# Altium integrated library TI Data Converters Analog to Digital Converter.IntLib: 2198 symbols (part 99 of 164)
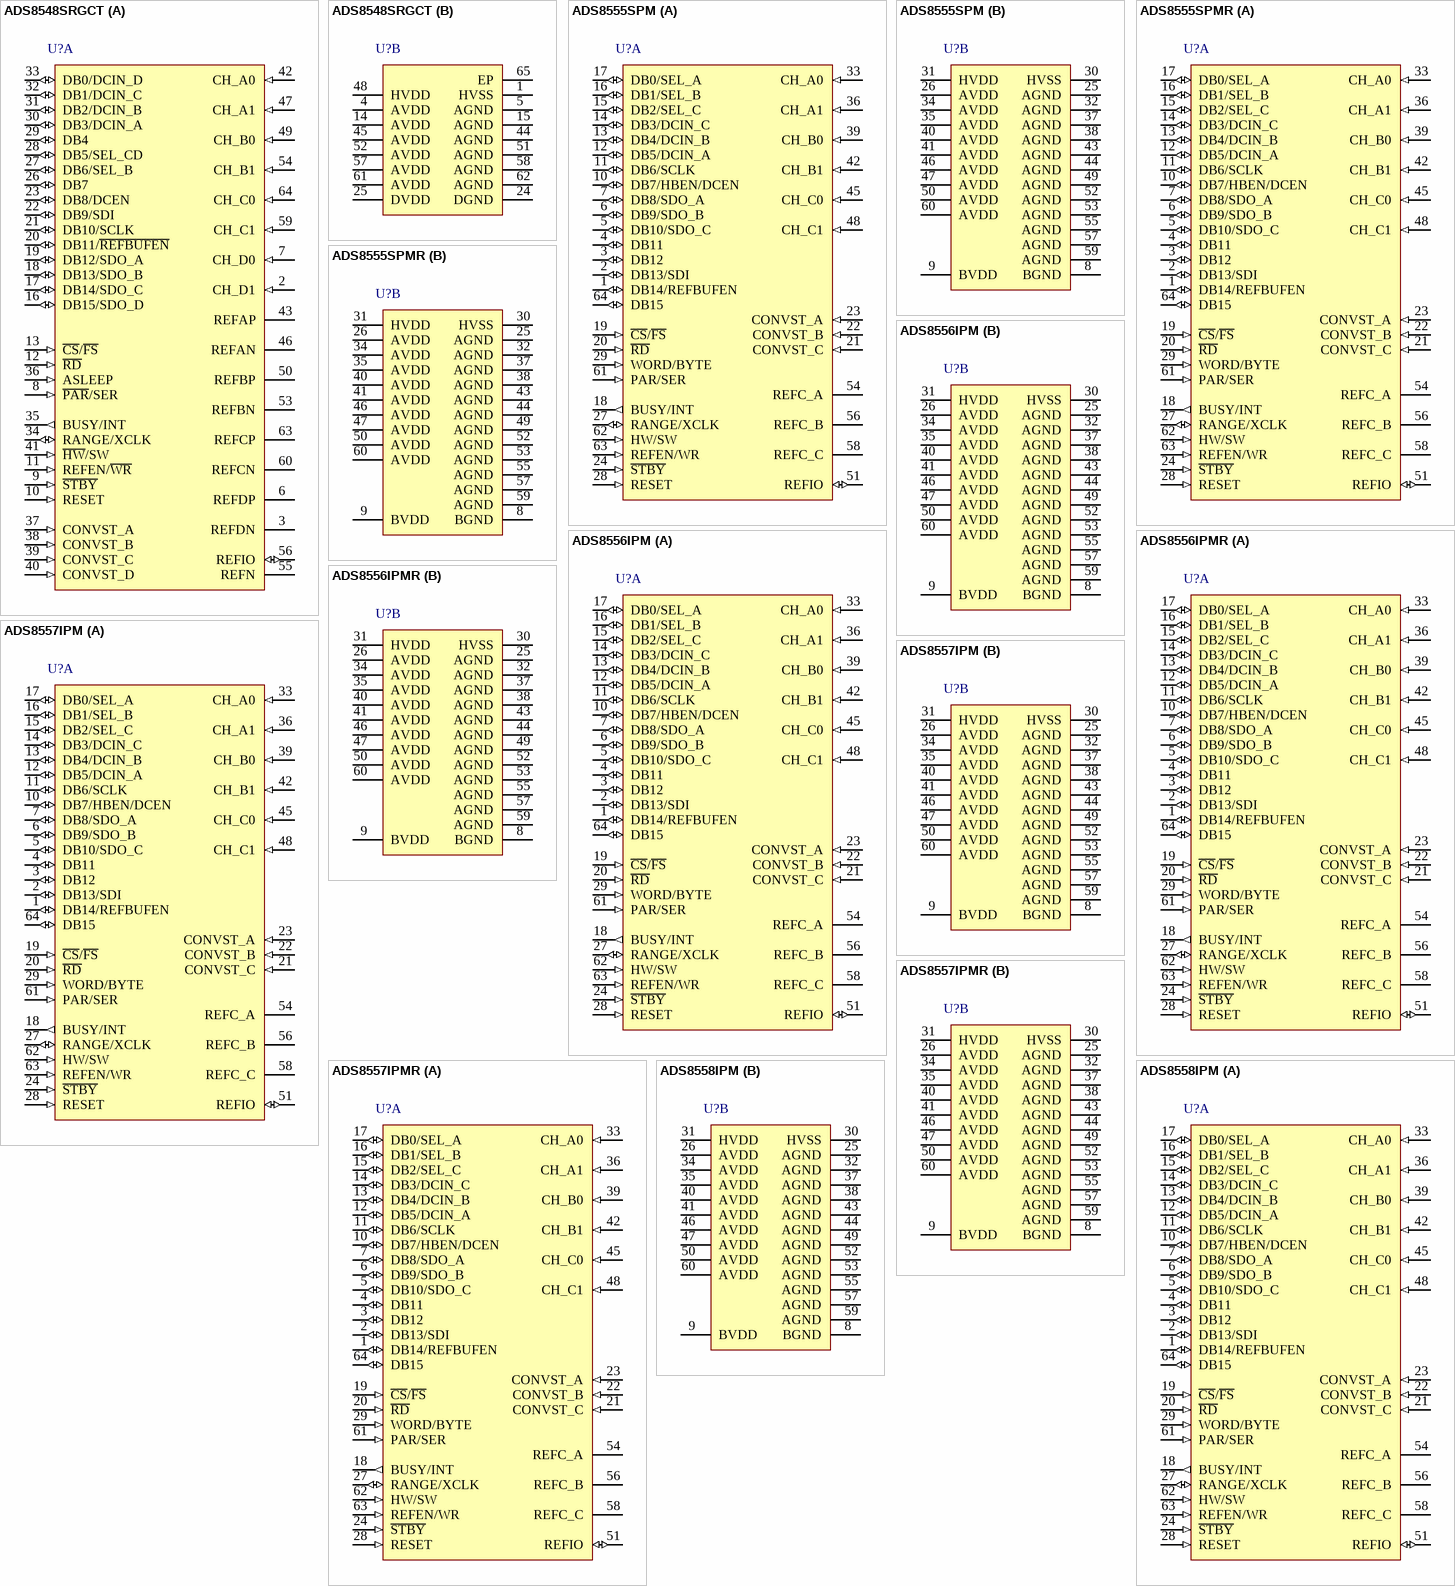
[diagram p224: symbols ADS8548SRGCT to ADS8558IPM]

## ADS8555SPM
designator U?
16-Bit, 6-Channel, Simultaneous Sampling ADC, -40 to 125 degC, 64-pin QFP (PM64), Green (RoHS & no Sb/Br); Manufacturer: Texas Instruments; PartNumber: ADS8555SPM; # Input Channels: 6; Analog Voltage AV/DD(Max)(V): 5.5; Analog Voltage AV/DD(Min)(V): 4.5; Architecture: SAR; Digital Supply(Min)(V): 2.7; INL(Max)(+/-LSB): 4; Interface: Parallel CMOS, Serial SPI; Resolution(Bits): 16; Sample Rate (max)(SPS): 630k; SFDR(dB): 95; SINAD(dB): 89.5; SNR(dB): 91.5; SubFamily: Precision ADC (<=10MSPS); DatasheetVersion: SBAS531B; PackageVersion: 4040152/C, 11/1996; PackageReference: PM64; PackageDescription: 64-Pin Plastic Quad Flatpack, Body 10 x 10 mm, Pitch 0.5 mm; Supplier 1: Digi-Key; Supplier Part Number 1: ADS7824U-ND; Digital Supply(Max)(V): 5.5; Eco-Plan: Green (RoHS & no Sb/Br); Mounting Technology: Surface Mount; Code_JEDEC: MS-026; ComponentLink1Description: Manufacturer URL; ComponentLink1URL: http://www.ti.com/; ComponentLink2Description: Datasheet; ComponentLink2URL: http://www.ti.com/general/docs/lit/getliterature.tsp?genericPartNumber=ADS8555&fileType=pdf; ComponentLink3Description: Package Specification; ComponentLink3URL: http://www.ti.com/lit/ml/mtqf008a/mtqf008a.pdf
footprint TI-PM64_N (QFP, 64-Leads, Body 10x10mm, Pitch 0.5mm, IPC Medium Density)
footprint TI-PM64_L (QFP, 64-Leads, Body 10x10mm, Pitch 0.5mm, IPC High Density)
footprint TI-PM64_M (QFP, 64-Leads, Body 10x10mm, Pitch 0.5mm, IPC Low Density)
part A pins: 1 DB14/REFBUFEN (io), 2 DB13/SDI (io), 3 DB12 (io), 4 DB11 (io), 5 DB10/SDO_C (io), 6 DB9/SDO_B (io), 7 DB8/SDO_A (io), 10 DB7/HBEN/DCEN (io), 11 DB6/SCLK (io), 12 DB5/DCIN_A (io), 13 DB4/DCIN_B (io), 14 DB3/DCIN_C (io), 15 DB2/SEL_C (io), 16 DB1/SEL_B (io), 17 DB0/SEL_A (io), 18 BUSY/INT (out), 19 ~{CS}/~{FS} (in), 20 ~{RD} (in), 21 CONVST_C (in), 22 CONVST_B (in), 23 CONVST_A (in), 24 ~{STBY} (in) "Standby mode input. When low, the entire device is powered-down (including the internal clock and reference). When high, the device operates in normal mode.", 27 RANGE/XCLK (io), 28 RESET (in) "Reset input, active high. Aborts any ongoing conversions. Resets the internal control register to 0x000003FF. The RESET pulse should be at least 50ns long.", 29 WORD/BYTE (in), 33 CH_A0 (in) "Analog input of channel A0. The input voltage range is controlled by RANGE pin in hardware mode or CR bit C26 (RANGE_A) in software mode.", 36 CH_A1 (in) "Analog input of channel A1. The input voltage range is controlled by RANGE pin in hardware mode or CR bit C26 (RANGE_A) in software mode.", 39 CH_B0 (in) "Analog input of channel B0. The input voltage range is controlled by RANGE pin in hardware mode or CR bit C27 (RANGE_B) in software mode.", 42 CH_B1 (in) "Analog input of channel B1. The input voltage range is controlled by RANGE pin in hardware mode or CR bit C27 (RANGE_B) in software mode.", 45 CH_C0 (in) "Analog input of channel C0. The input voltage range is controlled by RANGE pin in hardware mode or CR bit C28 (RANGE_C) in software mode.", 48 CH_C1 (in) "Analog input of channel C1. The input voltage range is controlled by RANGE pin in hardware mode or CR bit C28 (RANGE_C) in software mode.", 51 REFIO (io) "Reference voltage input/output (0.5V to 3.025V). The internal reference is enabled via REFEN/WR pin in hardware mode or CR bit C25 (REFEN) in software mode. The output value is controlled by the internal DAC (CR bits C[9:0]).(See Datasheet)", 54 REFC_A "Decoupling capacitor for reference of channels A. Connect a 10uF ceramic decoupling capacitor between this pin and pin 53.", 56 REFC_B "Decoupling capacitor for reference of channels B. Connect a 10uF ceramic decoupling capacitor between this pin and pin 55.", 58 REFC_C "Decoupling capacitor for reference of channels C. Connect a 10uF ceramic decoupling capacitor between this pin and pin 57.", 61 PAR/SER (in), 62 HW/SW (in), 63 REFEN/WR (in), 64 DB15 (io)
part B pins: 8 BGND (power) "Buffer IO ground, connect to digital ground plane", 9 BVDD (power) "Buffer IO supply, connect to digital supply (2.7V to 5.5V). Decouple with a 1uF ceramic capacitor or a combination of 100nF and 10uF ceramic capacitors to BGND.", 25 AGND (power) "Analog ground, connect to analog ground plane Pin 25 may have a dedicated ground if the difference between its potential and AGND is always kept within +/-300mV.", 26 AVDD (power) "Analog power supply (4.5V to 5.5V). Decouple each pin with a 100nF ceramic capacitor to AGND. Use an additional 10uF capacitor to AGND close to the device but without compromising the placement of the smaller capacitor. Pin (See Datasheet)", 30 HVSS (power) "Negative supply voltage for the analog inputs (-16.5V to -5V). Decouple with a 100nF ceramic capacitor to AGND placed next to the device and a 10uF capacitor to AGND close to the device but without compromising the placement (See Datasheet)", 31 HVDD (power) "Positive supply voltage for the analog inputs (5V to 16.5V). Decouple with a 100nF ceramic capacitor to AGND placed next to the device and a 10uF capacitor to AGND close to the device but without compromising the placement (See Datasheet)", 32 AGND (power) "Analog ground, connect to analog ground plane Pin 25 may have a dedicated ground if the difference between its potential and AGND is always kept within +/-300mV.", 34 AVDD (power) "Analog power supply (4.5V to 5.5V). Decouple each pin with a 100nF ceramic capacitor to AGND. Use an additional 10uF capacitor to AGND close to the device but without compromising the placement of the smaller capacitor. Pin (See Datasheet)", 35 AVDD (power) "Analog power supply (4.5V to 5.5V). Decouple each pin with a 100nF ceramic capacitor to AGND. Use an additional 10uF capacitor to AGND close to the device but without compromising the placement of the smaller capacitor. Pin (See Datasheet)", 37 AGND (power) "Analog ground, connect to analog ground plane Pin 25 may have a dedicated ground if the difference between its potential and AGND is always kept within +/-300mV.", 38 AGND (power) "Analog ground, connect to analog ground plane Pin 25 may have a dedicated ground if the difference between its potential and AGND is always kept within +/-300mV.", 40 AVDD (power) "Analog power supply (4.5V to 5.5V). Decouple each pin with a 100nF ceramic capacitor to AGND. Use an additional 10uF capacitor to AGND close to the device but without compromising the placement of the smaller capacitor. Pin (See Datasheet)", 41 AVDD (power) "Analog power supply (4.5V to 5.5V). Decouple each pin with a 100nF ceramic capacitor to AGND. Use an additional 10uF capacitor to AGND close to the device but without compromising the placement of the smaller capacitor. Pin (See Datasheet)", 43 AGND (power) "Analog ground, connect to analog ground plane Pin 25 may have a dedicated ground if the difference between its potential and AGND is always kept within +/-300mV.", 44 AGND (power) "Analog ground, connect to analog ground plane Pin 25 may have a dedicated ground if the difference between its potential and AGND is always kept within +/-300mV.", 46 AVDD (power) "Analog power supply (4.5V to 5.5V). Decouple each pin with a 100nF ceramic capacitor to AGND. Use an additional 10uF capacitor to AGND close to the device but without compromising the placement of the smaller capacitor. Pin (See Datasheet)", 47 AVDD (power) "Analog power supply (4.5V to 5.5V). Decouple each pin with a 100nF ceramic capacitor to AGND. Use an additional 10uF capacitor to AGND close to the device but without compromising the placement of the smaller capacitor. Pin (See Datasheet)", 49 AGND (power) "Analog ground, connect to analog ground plane Pin 25 may have a dedicated ground if the difference between its potential and AGND is always kept within +/-300mV.", 50 AVDD (power) "Analog power supply (4.5V to 5.5V). Decouple each pin with a 100nF ceramic capacitor to AGND. Use an additional 10uF capacitor to AGND close to the device but without compromising the placement of the smaller capacitor. Pin (See Datasheet)", 52 AGND (power) "Analog ground, connect to analog ground plane Pin 25 may have a dedicated ground if the difference between its potential and AGND is always kept within +/-300mV.", 53 AGND (power) "Analog ground, connect to analog ground plane Pin 25 may have a dedicated ground if the difference between its potential and AGND is always kept within +/-300mV.", 55 AGND (power) "Analog ground, connect to analog ground plane Pin 25 may have a dedicated ground if the difference between its potential and AGND is always kept within +/-300mV.", 57 AGND (power) "Analog ground, connect to analog ground plane Pin 25 may have a dedicated ground if the difference between its potential and AGND is always kept within +/-300mV.", 59 AGND (power) "Analog ground, connect to analog ground plane Pin 25 may have a dedicated ground if the difference between its potential and AGND is always kept within +/-300mV.", 60 AVDD (power) "Analog power supply (4.5V to 5.5V). Decouple each pin with a 100nF ceramic capacitor to AGND. Use an additional 10uF capacitor to AGND close to the device but without compromising the placement of the smaller capacitor. Pin (See Datasheet)"

## ADS8555SPMR
designator U?
16-Bit, 6-Channel, Simultaneous Sampling ADC, -40 to 125 degC, 64-pin QFP (PM64), Green (RoHS & no Sb/Br); Manufacturer: Texas Instruments; PartNumber: ADS8555SPMR; # Input Channels: 6; Analog Voltage AV/DD(Max)(V): 5.5; Analog Voltage AV/DD(Min)(V): 4.5; Architecture: SAR; Digital Supply(Min)(V): 2.7; INL(Max)(+/-LSB): 4; Interface: Parallel CMOS, Serial SPI; Resolution(Bits): 16; Sample Rate (max)(SPS): 630k; SFDR(dB): 95; SINAD(dB): 89.5; SNR(dB): 91.5; SubFamily: Precision ADC (<=10MSPS); DatasheetVersion: SBAS531B; PackageVersion: 4040152/C, 11/1996; PackageReference: PM64; PackageDescription: 64-Pin Plastic Quad Flatpack, Body 10 x 10 mm, Pitch 0.5 mm; Supplier 1: Digi-Key; Supplier Part Number 1: ADS7824U/1K-ND; Digital Supply(Max)(V): 5.5; Eco-Plan: Green (RoHS & no Sb/Br); Mounting Technology: Surface Mount; Code_JEDEC: MS-026; ComponentLink1Description: Manufacturer URL; ComponentLink1URL: http://www.ti.com/; ComponentLink2Description: Datasheet; ComponentLink2URL: http://www.ti.com/general/docs/lit/getliterature.tsp?genericPartNumber=ADS8555&fileType=pdf; ComponentLink3Description: Package Specification; ComponentLink3URL: http://www.ti.com/lit/ml/mtqf008a/mtqf008a.pdf
footprint TI-PM64_N (QFP, 64-Leads, Body 10x10mm, Pitch 0.5mm, IPC Medium Density)
footprint TI-PM64_L (QFP, 64-Leads, Body 10x10mm, Pitch 0.5mm, IPC High Density)
footprint TI-PM64_M (QFP, 64-Leads, Body 10x10mm, Pitch 0.5mm, IPC Low Density)
part A pins: 1 DB14/REFBUFEN (io), 2 DB13/SDI (io), 3 DB12 (io), 4 DB11 (io), 5 DB10/SDO_C (io), 6 DB9/SDO_B (io), 7 DB8/SDO_A (io), 10 DB7/HBEN/DCEN (io), 11 DB6/SCLK (io), 12 DB5/DCIN_A (io), 13 DB4/DCIN_B (io), 14 DB3/DCIN_C (io), 15 DB2/SEL_C (io), 16 DB1/SEL_B (io), 17 DB0/SEL_A (io), 18 BUSY/INT (out), 19 ~{CS}/~{FS} (in), 20 ~{RD} (in), 21 CONVST_C (in), 22 CONVST_B (in), 23 CONVST_A (in), 24 ~{STBY} (in) "Standby mode input. When low, the entire device is powered-down (including the internal clock and reference). When high, the device operates in normal mode.", 27 RANGE/XCLK (io), 28 RESET (in) "Reset input, active high. Aborts any ongoing conversions. Resets the internal control register to 0x000003FF. The RESET pulse should be at least 50ns long.", 29 WORD/BYTE (in), 33 CH_A0 (in) "Analog input of channel A0. The input voltage range is controlled by RANGE pin in hardware mode or CR bit C26 (RANGE_A) in software mode.", 36 CH_A1 (in) "Analog input of channel A1. The input voltage range is controlled by RANGE pin in hardware mode or CR bit C26 (RANGE_A) in software mode.", 39 CH_B0 (in) "Analog input of channel B0. The input voltage range is controlled by RANGE pin in hardware mode or CR bit C27 (RANGE_B) in software mode.", 42 CH_B1 (in) "Analog input of channel B1. The input voltage range is controlled by RANGE pin in hardware mode or CR bit C27 (RANGE_B) in software mode.", 45 CH_C0 (in) "Analog input of channel C0. The input voltage range is controlled by RANGE pin in hardware mode or CR bit C28 (RANGE_C) in software mode.", 48 CH_C1 (in) "Analog input of channel C1. The input voltage range is controlled by RANGE pin in hardware mode or CR bit C28 (RANGE_C) in software mode.", 51 REFIO (io) "Reference voltage input/output (0.5V to 3.025V). The internal reference is enabled via REFEN/WR pin in hardware mode or CR bit C25 (REFEN) in software mode. The output value is controlled by the internal DAC (CR bits C[9:0]).(See Datasheet)", 54 REFC_A "Decoupling capacitor for reference of channels A. Connect a 10uF ceramic decoupling capacitor between this pin and pin 53.", 56 REFC_B "Decoupling capacitor for reference of channels B. Connect a 10uF ceramic decoupling capacitor between this pin and pin 55.", 58 REFC_C "Decoupling capacitor for reference of channels C. Connect a 10uF ceramic decoupling capacitor between this pin and pin 57.", 61 PAR/SER (in), 62 HW/SW (in), 63 REFEN/WR (in), 64 DB15 (io)
part B pins: 8 BGND (power) "Buffer IO ground, connect to digital ground plane", 9 BVDD (power) "Buffer IO supply, connect to digital supply (2.7V to 5.5V). Decouple with a 1uF ceramic capacitor or a combination of 100nF and 10uF ceramic capacitors to BGND.", 25 AGND (power) "Analog ground, connect to analog ground plane Pin 25 may have a dedicated ground if the difference between its potential and AGND is always kept within +/-300mV.", 26 AVDD (power) "Analog power supply (4.5V to 5.5V). Decouple each pin with a 100nF ceramic capacitor to AGND. Use an additional 10uF capacitor to AGND close to the device but without compromising the placement of the smaller capacitor. Pin (See Datasheet)", 30 HVSS (power) "Negative supply voltage for the analog inputs (-16.5V to -5V). Decouple with a 100nF ceramic capacitor to AGND placed next to the device and a 10uF capacitor to AGND close to the device but without compromising the placement (See Datasheet)", 31 HVDD (power) "Positive supply voltage for the analog inputs (5V to 16.5V). Decouple with a 100nF ceramic capacitor to AGND placed next to the device and a 10uF capacitor to AGND close to the device but without compromising the placement (See Datasheet)", 32 AGND (power) "Analog ground, connect to analog ground plane Pin 25 may have a dedicated ground if the difference between its potential and AGND is always kept within +/-300mV.", 34 AVDD (power) "Analog power supply (4.5V to 5.5V). Decouple each pin with a 100nF ceramic capacitor to AGND. Use an additional 10uF capacitor to AGND close to the device but without compromising the placement of the smaller capacitor. Pin (See Datasheet)", 35 AVDD (power) "Analog power supply (4.5V to 5.5V). Decouple each pin with a 100nF ceramic capacitor to AGND. Use an additional 10uF capacitor to AGND close to the device but without compromising the placement of the smaller capacitor. Pin (See Datasheet)", 37 AGND (power) "Analog ground, connect to analog ground plane Pin 25 may have a dedicated ground if the difference between its potential and AGND is always kept within +/-300mV.", 38 AGND (power) "Analog ground, connect to analog ground plane Pin 25 may have a dedicated ground if the difference between its potential and AGND is always kept within +/-300mV.", 40 AVDD (power) "Analog power supply (4.5V to 5.5V). Decouple each pin with a 100nF ceramic capacitor to AGND. Use an additional 10uF capacitor to AGND close to the device but without compromising the placement of the smaller capacitor. Pin (See Datasheet)", 41 AVDD (power) "Analog power supply (4.5V to 5.5V). Decouple each pin with a 100nF ceramic capacitor to AGND. Use an additional 10uF capacitor to AGND close to the device but without compromising the placement of the smaller capacitor. Pin (See Datasheet)", 43 AGND (power) "Analog ground, connect to analog ground plane Pin 25 may have a dedicated ground if the difference between its potential and AGND is always kept within +/-300mV.", 44 AGND (power) "Analog ground, connect to analog ground plane Pin 25 may have a dedicated ground if the difference between its potential and AGND is always kept within +/-300mV.", 46 AVDD (power) "Analog power supply (4.5V to 5.5V). Decouple each pin with a 100nF ceramic capacitor to AGND. Use an additional 10uF capacitor to AGND close to the device but without compromising the placement of the smaller capacitor. Pin (See Datasheet)", 47 AVDD (power) "Analog power supply (4.5V to 5.5V). Decouple each pin with a 100nF ceramic capacitor to AGND. Use an additional 10uF capacitor to AGND close to the device but without compromising the placement of the smaller capacitor. Pin (See Datasheet)", 49 AGND (power) "Analog ground, connect to analog ground plane Pin 25 may have a dedicated ground if the difference between its potential and AGND is always kept within +/-300mV.", 50 AVDD (power) "Analog power supply (4.5V to 5.5V). Decouple each pin with a 100nF ceramic capacitor to AGND. Use an additional 10uF capacitor to AGND close to the device but without compromising the placement of the smaller capacitor. Pin (See Datasheet)", 52 AGND (power) "Analog ground, connect to analog ground plane Pin 25 may have a dedicated ground if the difference between its potential and AGND is always kept within +/-300mV.", 53 AGND (power) "Analog ground, connect to analog ground plane Pin 25 may have a dedicated ground if the difference between its potential and AGND is always kept within +/-300mV.", 55 AGND (power) "Analog ground, connect to analog ground plane Pin 25 may have a dedicated ground if the difference between its potential and AGND is always kept within +/-300mV.", 57 AGND (power) "Analog ground, connect to analog ground plane Pin 25 may have a dedicated ground if the difference between its potential and AGND is always kept within +/-300mV.", 59 AGND (power) "Analog ground, connect to analog ground plane Pin 25 may have a dedicated ground if the difference between its potential and AGND is always kept within +/-300mV.", 60 AVDD (power) "Analog power supply (4.5V to 5.5V). Decouple each pin with a 100nF ceramic capacitor to AGND. Use an additional 10uF capacitor to AGND close to the device but without compromising the placement of the smaller capacitor. Pin (See Datasheet)"

## ADS8556IPM
designator U?
630 kSPS, 6-Channel, Simultaneous Sampling ADC, -40 to 125 degC, 64-pin QFP (PM64), Green (RoHS & no Sb/Br); Manufacturer: Texas Instruments; PartNumber: ADS8556IPM; # Input Channels: 6; Analog Voltage AV/DD(Max)(V): 5.5; Analog Voltage AV/DD(Min)(V): 4.5; Architecture: SAR; Digital Supply(Min)(V): 2.7; INL(Max)(+/-LSB): 4; Interface: Parallel CMOS, Serial SPI; Resolution(Bits): 16; Sample Rate (max)(SPS): 630k; SFDR(dB): 95; SINAD(dB): 89.5; SNR(dB): 91.5; SubFamily: Precision ADC (<=10MSPS); DatasheetVersion: SBAS404B; PackageVersion: 4040152/C, 11/1996; PackageReference: PM64; PackageDescription: 64-Pin Plastic Quad Flatpack, Body 10 x 10 mm, Pitch 0.5 mm; Supplier 1: Digi-Key; Supplier Part Number 1: ADS7824U/1KE4-ND; Digital Supply(Max)(V): 5.5; Eco-Plan: Green (RoHS & no Sb/Br); Mounting Technology: Surface Mount; Code_JEDEC: MS-026; ComponentLink1Description: Manufacturer URL; ComponentLink1URL: http://www.ti.com/; ComponentLink2Description: Datasheet; ComponentLink2URL: http://www.ti.com/general/docs/lit/getliterature.tsp?genericPartNumber=ADS8556&fileType=pdf; ComponentLink3Description: Package Specification; ComponentLink3URL: http://www.ti.com/lit/ml/mtqf008a/mtqf008a.pdf
footprint TI-PM64_N (QFP, 64-Leads, Body 10x10mm, Pitch 0.5mm, IPC Medium Density)
footprint TI-PM64_L (QFP, 64-Leads, Body 10x10mm, Pitch 0.5mm, IPC High Density)
footprint TI-PM64_M (QFP, 64-Leads, Body 10x10mm, Pitch 0.5mm, IPC Low Density)
part A pins: 1 DB14/REFBUFEN (io), 2 DB13/SDI (io), 3 DB12 (io), 4 DB11 (io), 5 DB10/SDO_C (io), 6 DB9/SDO_B (io), 7 DB8/SDO_A (io), 10 DB7/HBEN/DCEN (io), 11 DB6/SCLK (io), 12 DB5/DCIN_A (io), 13 DB4/DCIN_B (io), 14 DB3/DCIN_C (io), 15 DB2/SEL_C (io), 16 DB1/SEL_B (io), 17 DB0/SEL_A (io), 18 BUSY/INT (out), 19 ~{CS}/~{FS} (in), 20 ~{RD} (in), 21 CONVST_C (in), 22 CONVST_B (in), 23 CONVST_A (in), 24 ~{STBY} (in) "Standby mode input. When low, the entire device is powered-down (including the internal clock and reference). When high, the device operates in normal mode.", 27 RANGE/XCLK (io), 28 RESET (in) "Reset input, active high. Aborts any ongoing conversions. Resets the internal control register to 0x000003FF. The RESET pulse should be at least 50ns long.", 29 WORD/BYTE (in), 33 CH_A0 (in) "Analog input of channel A0. The input voltage range is controlled by RANGE pin in hardware mode or CR bit C26 (RANGE_A) in software mode.", 36 CH_A1 (in) "Analog input of channel A1. The input voltage range is controlled by RANGE pin in hardware mode or CR bit C26 (RANGE_A) in software mode.", 39 CH_B0 (in) "Analog input of channel B0. The input voltage range is controlled by RANGE pin in hardware mode or CR bit C27 (RANGE_B) in software mode.", 42 CH_B1 (in) "Analog input of channel B1. The input voltage range is controlled by RANGE pin in hardware mode or CR bit C27 (RANGE_B) in software mode.", 45 CH_C0 (in) "Analog input of channel C0. The input voltage range is controlled by RANGE pin in hardware mode or CR bit C28 (RANGE_C) in software mode.", 48 CH_C1 (in) "Analog input of channel C1. The input voltage range is controlled by RANGE pin in hardware mode or CR bit C28 (RANGE_C) in software mode.", 51 REFIO (io) "Reference voltage input/output (0.5V to 3.025V). The internal reference is enabled via REFEN/WR pin in hardware mode or CR bit C25 (REFEN) in software mode. The output value is controlled by the internal DAC (CR bits C[9:0]).(See Datasheet)", 54 REFC_A "Decoupling capacitor for reference of channels A. Connect a 10uF ceramic decoupling capacitor between this pin and pin 53.", 56 REFC_B "Decoupling capacitor for reference of channels B. Connect a 10uF ceramic decoupling capacitor between this pin and pin 55.", 58 REFC_C "Decoupling capacitor for reference of channels C. Connect a 10uF ceramic decoupling capacitor between this pin and pin 57.", 61 PAR/SER (in), 62 HW/SW (in), 63 REFEN/WR (in), 64 DB15 (io)
part B pins: 8 BGND (power) "Buffer IO ground, connect to digital ground plane", 9 BVDD (power) "Buffer IO supply, connect to digital supply (2.7V to 5.5V). Decouple with a 1uF ceramic capacitor or a combination of 100nF and 10uF ceramic capacitors to BGND.", 25 AGND (power) "Analog ground, connect to analog ground plane Pin 25 may have a dedicated ground if the difference between its potential and AGND is always kept within +/-300mV.", 26 AVDD (power) "Analog power supply (4.5V to 5.5V). Decouple each pin with a 100nF ceramic capacitor to AGND. Use an additional 10uF capacitor to AGND close to the device but without compromising the placement of the smaller capacitor. Pin (See Datasheet)", 30 HVSS (power) "Negative supply voltage for the analog inputs (-16.5V to -5V). Decouple with a 100nF ceramic capacitor to AGND placed next to the device and a 10uF capacitor to AGND close to the device but without compromising the placement (See Datasheet)", 31 HVDD (power) "Positive supply voltage for the analog inputs (5V to 16.5V). Decouple with a 100nF ceramic capacitor to AGND placed next to the device and a 10uF capacitor to AGND close to the device but without compromising the placement (See Datasheet)", 32 AGND (power) "Analog ground, connect to analog ground plane Pin 25 may have a dedicated ground if the difference between its potential and AGND is always kept within +/-300mV.", 34 AVDD (power) "Analog power supply (4.5V to 5.5V). Decouple each pin with a 100nF ceramic capacitor to AGND. Use an additional 10uF capacitor to AGND close to the device but without compromising the placement of the smaller capacitor. Pin (See Datasheet)", 35 AVDD (power) "Analog power supply (4.5V to 5.5V). Decouple each pin with a 100nF ceramic capacitor to AGND. Use an additional 10uF capacitor to AGND close to the device but without compromising the placement of the smaller capacitor. Pin (See Datasheet)", 37 AGND (power) "Analog ground, connect to analog ground plane Pin 25 may have a dedicated ground if the difference between its potential and AGND is always kept within +/-300mV.", 38 AGND (power) "Analog ground, connect to analog ground plane Pin 25 may have a dedicated ground if the difference between its potential and AGND is always kept within +/-300mV.", 40 AVDD (power) "Analog power supply (4.5V to 5.5V). Decouple each pin with a 100nF ceramic capacitor to AGND. Use an additional 10uF capacitor to AGND close to the device but without compromising the placement of the smaller capacitor. Pin (See Datasheet)", 41 AVDD (power) "Analog power supply (4.5V to 5.5V). Decouple each pin with a 100nF ceramic capacitor to AGND. Use an additional 10uF capacitor to AGND close to the device but without compromising the placement of the smaller capacitor. Pin (See Datasheet)", 43 AGND (power) "Analog ground, connect to analog ground plane Pin 25 may have a dedicated ground if the difference between its potential and AGND is always kept within +/-300mV.", 44 AGND (power) "Analog ground, connect to analog ground plane Pin 25 may have a dedicated ground if the difference between its potential and AGND is always kept within +/-300mV.", 46 AVDD (power) "Analog power supply (4.5V to 5.5V). Decouple each pin with a 100nF ceramic capacitor to AGND. Use an additional 10uF capacitor to AGND close to the device but without compromising the placement of the smaller capacitor. Pin (See Datasheet)", 47 AVDD (power) "Analog power supply (4.5V to 5.5V). Decouple each pin with a 100nF ceramic capacitor to AGND. Use an additional 10uF capacitor to AGND close to the device but without compromising the placement of the smaller capacitor. Pin (See Datasheet)", 49 AGND (power) "Analog ground, connect to analog ground plane Pin 25 may have a dedicated ground if the difference between its potential and AGND is always kept within +/-300mV.", 50 AVDD (power) "Analog power supply (4.5V to 5.5V). Decouple each pin with a 100nF ceramic capacitor to AGND. Use an additional 10uF capacitor to AGND close to the device but without compromising the placement of the smaller capacitor. Pin (See Datasheet)", 52 AGND (power) "Analog ground, connect to analog ground plane Pin 25 may have a dedicated ground if the difference between its potential and AGND is always kept within +/-300mV.", 53 AGND (power) "Analog ground, connect to analog ground plane Pin 25 may have a dedicated ground if the difference between its potential and AGND is always kept within +/-300mV.", 55 AGND (power) "Analog ground, connect to analog ground plane Pin 25 may have a dedicated ground if the difference between its potential and AGND is always kept within +/-300mV.", 57 AGND (power) "Analog ground, connect to analog ground plane Pin 25 may have a dedicated ground if the difference between its potential and AGND is always kept within +/-300mV.", 59 AGND (power) "Analog ground, connect to analog ground plane Pin 25 may have a dedicated ground if the difference between its potential and AGND is always kept within +/-300mV.", 60 AVDD (power) "Analog power supply (4.5V to 5.5V). Decouple each pin with a 100nF ceramic capacitor to AGND. Use an additional 10uF capacitor to AGND close to the device but without compromising the placement of the smaller capacitor. Pin (See Datasheet)"

## ADS8556IPMR
designator U?
630 kSPS, 6-Channel, Simultaneous Sampling ADC, -40 to 125 degC, 64-pin QFP (PM64), Green (RoHS & no Sb/Br); Manufacturer: Texas Instruments; PartNumber: ADS8556IPMR; # Input Channels: 6; Analog Voltage AV/DD(Max)(V): 5.5; Analog Voltage AV/DD(Min)(V): 4.5; Architecture: SAR; Digital Supply(Min)(V): 2.7; INL(Max)(+/-LSB): 4; Interface: Parallel CMOS, Serial SPI; Resolution(Bits): 16; Sample Rate (max)(SPS): 630k; SFDR(dB): 95; SINAD(dB): 89.5; SNR(dB): 91.5; SubFamily: Precision ADC (<=10MSPS); DatasheetVersion: SBAS404B; PackageVersion: 4040152/C, 11/1996; PackageReference: PM64; PackageDescription: 64-Pin Plastic Quad Flatpack, Body 10 x 10 mm, Pitch 0.5 mm; Supplier 1: Digi-Key; Supplier Part Number 1: ADS7824UB-ND; Digital Supply(Max)(V): 5.5; Eco-Plan: Green (RoHS & no Sb/Br); Mounting Technology: Surface Mount; Code_JEDEC: MS-026; ComponentLink1Description: Manufacturer URL; ComponentLink1URL: http://www.ti.com/; ComponentLink2Description: Datasheet; ComponentLink2URL: http://www.ti.com/general/docs/lit/getliterature.tsp?genericPartNumber=ADS8556&fileType=pdf; ComponentLink3Description: Package Specification; ComponentLink3URL: http://www.ti.com/lit/ml/mtqf008a/mtqf008a.pdf
footprint TI-PM64_N (QFP, 64-Leads, Body 10x10mm, Pitch 0.5mm, IPC Medium Density)
footprint TI-PM64_L (QFP, 64-Leads, Body 10x10mm, Pitch 0.5mm, IPC High Density)
footprint TI-PM64_M (QFP, 64-Leads, Body 10x10mm, Pitch 0.5mm, IPC Low Density)
part A pins: 1 DB14/REFBUFEN (io), 2 DB13/SDI (io), 3 DB12 (io), 4 DB11 (io), 5 DB10/SDO_C (io), 6 DB9/SDO_B (io), 7 DB8/SDO_A (io), 10 DB7/HBEN/DCEN (io), 11 DB6/SCLK (io), 12 DB5/DCIN_A (io), 13 DB4/DCIN_B (io), 14 DB3/DCIN_C (io), 15 DB2/SEL_C (io), 16 DB1/SEL_B (io), 17 DB0/SEL_A (io), 18 BUSY/INT (out), 19 ~{CS}/~{FS} (in), 20 ~{RD} (in), 21 CONVST_C (in), 22 CONVST_B (in), 23 CONVST_A (in), 24 ~{STBY} (in) "Standby mode input. When low, the entire device is powered-down (including the internal clock and reference). When high, the device operates in normal mode.", 27 RANGE/XCLK (io), 28 RESET (in) "Reset input, active high. Aborts any ongoing conversions. Resets the internal control register to 0x000003FF. The RESET pulse should be at least 50ns long.", 29 WORD/BYTE (in), 33 CH_A0 (in) "Analog input of channel A0. The input voltage range is controlled by RANGE pin in hardware mode or CR bit C26 (RANGE_A) in software mode.", 36 CH_A1 (in) "Analog input of channel A1. The input voltage range is controlled by RANGE pin in hardware mode or CR bit C26 (RANGE_A) in software mode.", 39 CH_B0 (in) "Analog input of channel B0. The input voltage range is controlled by RANGE pin in hardware mode or CR bit C27 (RANGE_B) in software mode.", 42 CH_B1 (in) "Analog input of channel B1. The input voltage range is controlled by RANGE pin in hardware mode or CR bit C27 (RANGE_B) in software mode.", 45 CH_C0 (in) "Analog input of channel C0. The input voltage range is controlled by RANGE pin in hardware mode or CR bit C28 (RANGE_C) in software mode.", 48 CH_C1 (in) "Analog input of channel C1. The input voltage range is controlled by RANGE pin in hardware mode or CR bit C28 (RANGE_C) in software mode.", 51 REFIO (io) "Reference voltage input/output (0.5V to 3.025V). The internal reference is enabled via REFEN/WR pin in hardware mode or CR bit C25 (REFEN) in software mode. The output value is controlled by the internal DAC (CR bits C[9:0]).(See Datasheet)", 54 REFC_A "Decoupling capacitor for reference of channels A. Connect a 10uF ceramic decoupling capacitor between this pin and pin 53.", 56 REFC_B "Decoupling capacitor for reference of channels B. Connect a 10uF ceramic decoupling capacitor between this pin and pin 55.", 58 REFC_C "Decoupling capacitor for reference of channels C. Connect a 10uF ceramic decoupling capacitor between this pin and pin 57.", 61 PAR/SER (in), 62 HW/SW (in), 63 REFEN/WR (in), 64 DB15 (io)
part B pins: 8 BGND (power) "Buffer IO ground, connect to digital ground plane", 9 BVDD (power) "Buffer IO supply, connect to digital supply (2.7V to 5.5V). Decouple with a 1uF ceramic capacitor or a combination of 100nF and 10uF ceramic capacitors to BGND.", 25 AGND (power) "Analog ground, connect to analog ground plane Pin 25 may have a dedicated ground if the difference between its potential and AGND is always kept within +/-300mV.", 26 AVDD (power) "Analog power supply (4.5V to 5.5V). Decouple each pin with a 100nF ceramic capacitor to AGND. Use an additional 10uF capacitor to AGND close to the device but without compromising the placement of the smaller capacitor. Pin (See Datasheet)", 30 HVSS (power) "Negative supply voltage for the analog inputs (-16.5V to -5V). Decouple with a 100nF ceramic capacitor to AGND placed next to the device and a 10uF capacitor to AGND close to the device but without compromising the placement (See Datasheet)", 31 HVDD (power) "Positive supply voltage for the analog inputs (5V to 16.5V). Decouple with a 100nF ceramic capacitor to AGND placed next to the device and a 10uF capacitor to AGND close to the device but without compromising the placement (See Datasheet)", 32 AGND (power) "Analog ground, connect to analog ground plane Pin 25 may have a dedicated ground if the difference between its potential and AGND is always kept within +/-300mV.", 34 AVDD (power) "Analog power supply (4.5V to 5.5V). Decouple each pin with a 100nF ceramic capacitor to AGND. Use an additional 10uF capacitor to AGND close to the device but without compromising the placement of the smaller capacitor. Pin (See Datasheet)", 35 AVDD (power) "Analog power supply (4.5V to 5.5V). Decouple each pin with a 100nF ceramic capacitor to AGND. Use an additional 10uF capacitor to AGND close to the device but without compromising the placement of the smaller capacitor. Pin (See Datasheet)", 37 AGND (power) "Analog ground, connect to analog ground plane Pin 25 may have a dedicated ground if the difference between its potential and AGND is always kept within +/-300mV.", 38 AGND (power) "Analog ground, connect to analog ground plane Pin 25 may have a dedicated ground if the difference between its potential and AGND is always kept within +/-300mV.", 40 AVDD (power) "Analog power supply (4.5V to 5.5V). Decouple each pin with a 100nF ceramic capacitor to AGND. Use an additional 10uF capacitor to AGND close to the device but without compromising the placement of the smaller capacitor. Pin (See Datasheet)", 41 AVDD (power) "Analog power supply (4.5V to 5.5V). Decouple each pin with a 100nF ceramic capacitor to AGND. Use an additional 10uF capacitor to AGND close to the device but without compromising the placement of the smaller capacitor. Pin (See Datasheet)", 43 AGND (power) "Analog ground, connect to analog ground plane Pin 25 may have a dedicated ground if the difference between its potential and AGND is always kept within +/-300mV.", 44 AGND (power) "Analog ground, connect to analog ground plane Pin 25 may have a dedicated ground if the difference between its potential and AGND is always kept within +/-300mV.", 46 AVDD (power) "Analog power supply (4.5V to 5.5V). Decouple each pin with a 100nF ceramic capacitor to AGND. Use an additional 10uF capacitor to AGND close to the device but without compromising the placement of the smaller capacitor. Pin (See Datasheet)", 47 AVDD (power) "Analog power supply (4.5V to 5.5V). Decouple each pin with a 100nF ceramic capacitor to AGND. Use an additional 10uF capacitor to AGND close to the device but without compromising the placement of the smaller capacitor. Pin (See Datasheet)", 49 AGND (power) "Analog ground, connect to analog ground plane Pin 25 may have a dedicated ground if the difference between its potential and AGND is always kept within +/-300mV.", 50 AVDD (power) "Analog power supply (4.5V to 5.5V). Decouple each pin with a 100nF ceramic capacitor to AGND. Use an additional 10uF capacitor to AGND close to the device but without compromising the placement of the smaller capacitor. Pin (See Datasheet)", 52 AGND (power) "Analog ground, connect to analog ground plane Pin 25 may have a dedicated ground if the difference between its potential and AGND is always kept within +/-300mV.", 53 AGND (power) "Analog ground, connect to analog ground plane Pin 25 may have a dedicated ground if the difference between its potential and AGND is always kept within +/-300mV.", 55 AGND (power) "Analog ground, connect to analog ground plane Pin 25 may have a dedicated ground if the difference between its potential and AGND is always kept within +/-300mV.", 57 AGND (power) "Analog ground, connect to analog ground plane Pin 25 may have a dedicated ground if the difference between its potential and AGND is always kept within +/-300mV.", 59 AGND (power) "Analog ground, connect to analog ground plane Pin 25 may have a dedicated ground if the difference between its potential and AGND is always kept within +/-300mV.", 60 AVDD (power) "Analog power supply (4.5V to 5.5V). Decouple each pin with a 100nF ceramic capacitor to AGND. Use an additional 10uF capacitor to AGND close to the device but without compromising the placement of the smaller capacitor. Pin (See Datasheet)"

## ADS8557IPM
designator U?
670 kSPS, 14-Bit, 6-Channel, Simultaneous Sampling ADC, -40 to 125 degC, 64-pin QFP (PM64), Green (RoHS & no Sb/Br); Manufacturer: Texas Instruments; PartNumber: ADS8557IPM; # Input Channels: 6; Analog Voltage AV/DD(Max)(V): 5.5; Analog Voltage AV/DD(Min)(V): 4.5; Architecture: SAR; Digital Supply(Min)(V): 2.7; INL(Max)(+/-LSB): 1; Interface: Parallel CMOS, Serial SPI; Resolution(Bits): 14; Sample Rate (max)(SPS): 670k; SFDR(dB): 92; SINAD(dB): 84; SNR(dB): 85; SubFamily: Precision ADC (<=10MSPS); DatasheetVersion: SBAS404B; PackageVersion: 4040152/C, 11/1996; PackageReference: PM64; PackageDescription: 64-Pin Plastic Quad Flatpack, Body 10 x 10 mm, Pitch 0.5 mm; Supplier 1: Digi-Key; Supplier Part Number 1: ADS7824UB/1K-ND; Digital Supply(Max)(V): 5.5; Eco-Plan: Green (RoHS & no Sb/Br); Mounting Technology: Surface Mount; Code_JEDEC: MS-026; ComponentLink1Description: Manufacturer URL; ComponentLink1URL: http://www.ti.com/; ComponentLink2Description: Datasheet; ComponentLink2URL: http://www.ti.com/general/docs/lit/getliterature.tsp?genericPartNumber=ADS8557&fileType=pdf; ComponentLink3Description: Package Specification; ComponentLink3URL: http://www.ti.com/lit/ml/mtqf008a/mtqf008a.pdf
footprint TI-PM64_N (QFP, 64-Leads, Body 10x10mm, Pitch 0.5mm, IPC Medium Density)
footprint TI-PM64_L (QFP, 64-Leads, Body 10x10mm, Pitch 0.5mm, IPC High Density)
footprint TI-PM64_M (QFP, 64-Leads, Body 10x10mm, Pitch 0.5mm, IPC Low Density)
part A pins: 1 DB14/REFBUFEN (io), 2 DB13/SDI (io), 3 DB12 (io), 4 DB11 (io), 5 DB10/SDO_C (io), 6 DB9/SDO_B (io), 7 DB8/SDO_A (io), 10 DB7/HBEN/DCEN (io), 11 DB6/SCLK (io), 12 DB5/DCIN_A (io), 13 DB4/DCIN_B (io), 14 DB3/DCIN_C (io), 15 DB2/SEL_C (io), 16 DB1/SEL_B (io), 17 DB0/SEL_A (io), 18 BUSY/INT (out), 19 ~{CS}/~{FS} (in), 20 ~{RD} (in), 21 CONVST_C (in), 22 CONVST_B (in), 23 CONVST_A (in), 24 ~{STBY} (in) "Standby mode input. When low, the entire device is powered-down (including the internal clock and reference). When high, the device operates in normal mode.", 27 RANGE/XCLK (io), 28 RESET (in) "Reset input, active high. Aborts any ongoing conversions. Resets the internal control register to 0x000003FF. The RESET pulse should be at least 50ns long.", 29 WORD/BYTE (in), 33 CH_A0 (in) "Analog input of channel A0. The input voltage range is controlled by RANGE pin in hardware mode or CR bit C26 (RANGE_A) in software mode.", 36 CH_A1 (in) "Analog input of channel A1. The input voltage range is controlled by RANGE pin in hardware mode or CR bit C26 (RANGE_A) in software mode.", 39 CH_B0 (in) "Analog input of channel B0. The input voltage range is controlled by RANGE pin in hardware mode or CR bit C27 (RANGE_B) in software mode.", 42 CH_B1 (in) "Analog input of channel B1. The input voltage range is controlled by RANGE pin in hardware mode or CR bit C27 (RANGE_B) in software mode.", 45 CH_C0 (in) "Analog input of channel C0. The input voltage range is controlled by RANGE pin in hardware mode or CR bit C28 (RANGE_C) in software mode.", 48 CH_C1 (in) "Analog input of channel C1. The input voltage range is controlled by RANGE pin in hardware mode or CR bit C28 (RANGE_C) in software mode.", 51 REFIO (io) "Reference voltage input/output (0.5V to 3.025V). The internal reference is enabled via REFEN/WR pin in hardware mode or CR bit C25 (REFEN) in software mode. The output value is controlled by the internal DAC (CR bits C[9:0]).(See Datasheet)", 54 REFC_A "Decoupling capacitor for reference of channels A. Connect a 10uF ceramic decoupling capacitor between this pin and pin 53.", 56 REFC_B "Decoupling capacitor for reference of channels B. Connect a 10uF ceramic decoupling capacitor between this pin and pin 55.", 58 REFC_C "Decoupling capacitor for reference of channels C. Connect a 10uF ceramic decoupling capacitor between this pin and pin 57.", 61 PAR/SER (in), 62 HW/SW (in), 63 REFEN/WR (in), 64 DB15 (io)
part B pins: 8 BGND (power) "Buffer IO ground, connect to digital ground plane", 9 BVDD (power) "Buffer IO supply, connect to digital supply (2.7V to 5.5V). Decouple with a 1uF ceramic capacitor or a combination of 100nF and 10uF ceramic capacitors to BGND.", 25 AGND (power) "Analog ground, connect to analog ground plane Pin 25 may have a dedicated ground if the difference between its potential and AGND is always kept within +/-300mV.", 26 AVDD (power) "Analog power supply (4.5V to 5.5V). Decouple each pin with a 100nF ceramic capacitor to AGND. Use an additional 10uF capacitor to AGND close to the device but without compromising the placement of the smaller capacitor. Pin (See Datasheet)", 30 HVSS (power) "Negative supply voltage for the analog inputs (-16.5V to -5V). Decouple with a 100nF ceramic capacitor to AGND placed next to the device and a 10uF capacitor to AGND close to the device but without compromising the placement (See Datasheet)", 31 HVDD (power) "Positive supply voltage for the analog inputs (5V to 16.5V). Decouple with a 100nF ceramic capacitor to AGND placed next to the device and a 10uF capacitor to AGND close to the device but without compromising the placement (See Datasheet)", 32 AGND (power) "Analog ground, connect to analog ground plane Pin 25 may have a dedicated ground if the difference between its potential and AGND is always kept within +/-300mV.", 34 AVDD (power) "Analog power supply (4.5V to 5.5V). Decouple each pin with a 100nF ceramic capacitor to AGND. Use an additional 10uF capacitor to AGND close to the device but without compromising the placement of the smaller capacitor. Pin (See Datasheet)", 35 AVDD (power) "Analog power supply (4.5V to 5.5V). Decouple each pin with a 100nF ceramic capacitor to AGND. Use an additional 10uF capacitor to AGND close to the device but without compromising the placement of the smaller capacitor. Pin (See Datasheet)", 37 AGND (power) "Analog ground, connect to analog ground plane Pin 25 may have a dedicated ground if the difference between its potential and AGND is always kept within +/-300mV.", 38 AGND (power) "Analog ground, connect to analog ground plane Pin 25 may have a dedicated ground if the difference between its potential and AGND is always kept within +/-300mV.", 40 AVDD (power) "Analog power supply (4.5V to 5.5V). Decouple each pin with a 100nF ceramic capacitor to AGND. Use an additional 10uF capacitor to AGND close to the device but without compromising the placement of the smaller capacitor. Pin (See Datasheet)", 41 AVDD (power) "Analog power supply (4.5V to 5.5V). Decouple each pin with a 100nF ceramic capacitor to AGND. Use an additional 10uF capacitor to AGND close to the device but without compromising the placement of the smaller capacitor. Pin (See Datasheet)", 43 AGND (power) "Analog ground, connect to analog ground plane Pin 25 may have a dedicated ground if the difference between its potential and AGND is always kept within +/-300mV.", 44 AGND (power) "Analog ground, connect to analog ground plane Pin 25 may have a dedicated ground if the difference between its potential and AGND is always kept within +/-300mV.", 46 AVDD (power) "Analog power supply (4.5V to 5.5V). Decouple each pin with a 100nF ceramic capacitor to AGND. Use an additional 10uF capacitor to AGND close to the device but without compromising the placement of the smaller capacitor. Pin (See Datasheet)", 47 AVDD (power) "Analog power supply (4.5V to 5.5V). Decouple each pin with a 100nF ceramic capacitor to AGND. Use an additional 10uF capacitor to AGND close to the device but without compromising the placement of the smaller capacitor. Pin (See Datasheet)", 49 AGND (power) "Analog ground, connect to analog ground plane Pin 25 may have a dedicated ground if the difference between its potential and AGND is always kept within +/-300mV.", 50 AVDD (power) "Analog power supply (4.5V to 5.5V). Decouple each pin with a 100nF ceramic capacitor to AGND. Use an additional 10uF capacitor to AGND close to the device but without compromising the placement of the smaller capacitor. Pin (See Datasheet)", 52 AGND (power) "Analog ground, connect to analog ground plane Pin 25 may have a dedicated ground if the difference between its potential and AGND is always kept within +/-300mV.", 53 AGND (power) "Analog ground, connect to analog ground plane Pin 25 may have a dedicated ground if the difference between its potential and AGND is always kept within +/-300mV.", 55 AGND (power) "Analog ground, connect to analog ground plane Pin 25 may have a dedicated ground if the difference between its potential and AGND is always kept within +/-300mV.", 57 AGND (power) "Analog ground, connect to analog ground plane Pin 25 may have a dedicated ground if the difference between its potential and AGND is always kept within +/-300mV.", 59 AGND (power) "Analog ground, connect to analog ground plane Pin 25 may have a dedicated ground if the difference between its potential and AGND is always kept within +/-300mV.", 60 AVDD (power) "Analog power supply (4.5V to 5.5V). Decouple each pin with a 100nF ceramic capacitor to AGND. Use an additional 10uF capacitor to AGND close to the device but without compromising the placement of the smaller capacitor. Pin (See Datasheet)"